# Altium schematic symbol library TLC5916.SchLib: 1 symbol
Pins are listed as number, name and electrical type; pins without a type are passive.

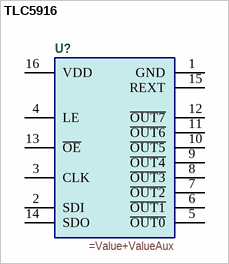
[diagram p0: symbol TLC5916]

## TLC5916
designator U?
=Description
pins: 1 GND, 2 SDI, 3 CLK, 4 LE, 5 ~{OUT0}, 6 ~{OUT1}, 7 ~{OUT2}, 8 ~{OUT3}, 9 ~{OUT4}, 10 ~{OUT5}, 11 ~{OUT6}, 12 ~{OUT7}, 13 ~{OE}, 14 SDO, 15 REXT, 16 VDD